# Altium footprint library 可控硅.PcbLib: 7 footprints
Each footprint in its own frame and in the unit in brackets; x right, y up, seen from the top. Pads: shape width x height; smd on the part's side, far side on the other; paste and mask are expansions set on the pad; w line width, h text height; cw(c..) or ccw(c..) is an arc to the next point about the centre after c.
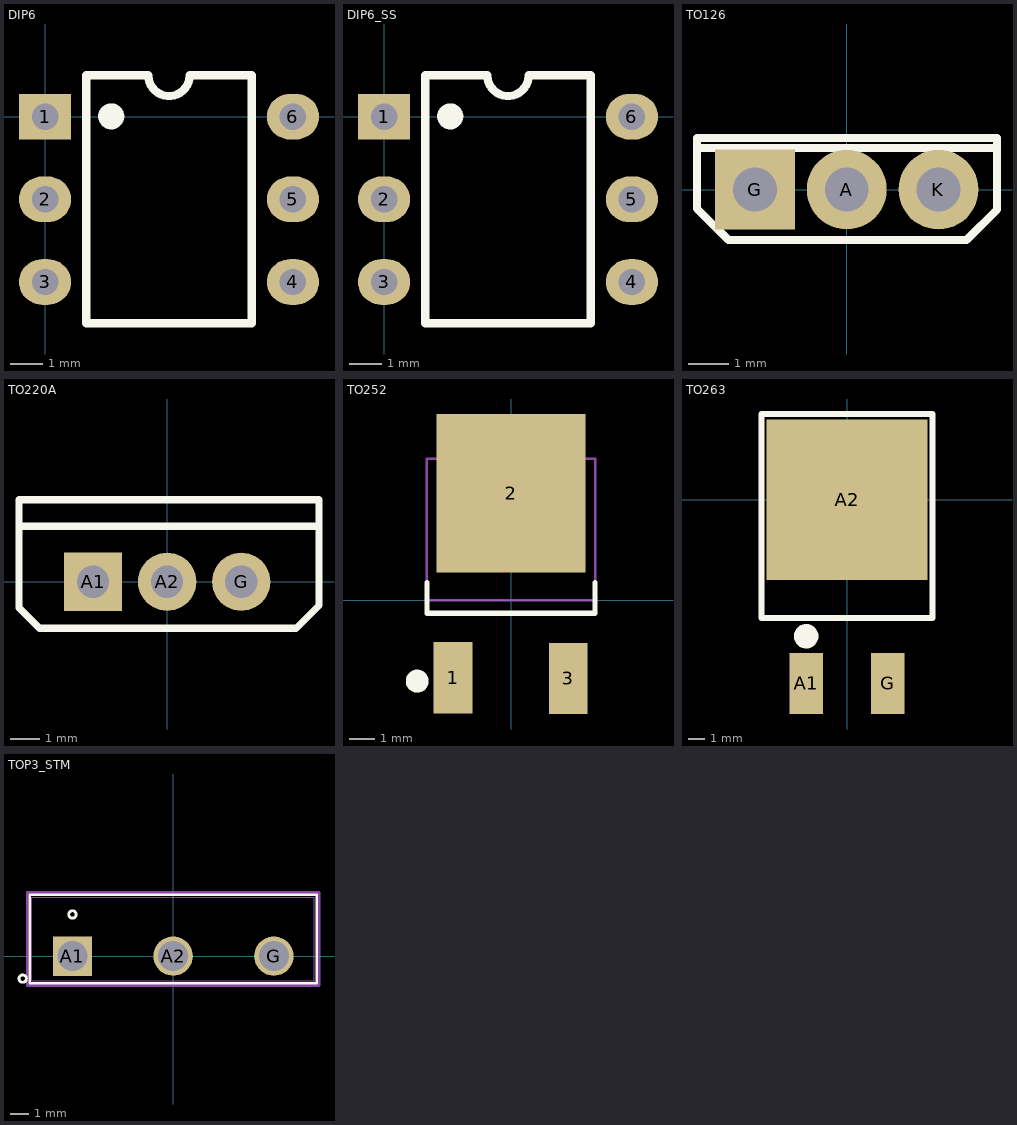
[diagram p0: the footprints below, top view; thin cyan lines are the x and y axes]

## DIP6 [mm]
pads (6):
  rect 1.6x1.4 hole 0.813: 1(0,0)
  oval 1.6x1.4 hole 0.813: 2(0,-2.54) 3(0,-5.08) 4(7.62,-5.08) 5(7.62,-2.54) 6(7.62,0)
Top Overlay:
  circle w0.5: c2.035,0.01 r0.15
  lines w0.254: 1.27,-6.35 6.35,-6.35 6.35,1.27 4.445,1.27 cw(c3.81,1.27) 3.175,1.27 1.27,1.27 1.27,-6.35
3D body "DIP6.STEP": height 4.3, standoff -3, extent -0.125,-6.104 7.745,1.016

## DIP6_SS [mm] "DIP6-SMD Socket"
pads (6):
  rect 1.6x1.4 hole 0.813: 1(0,0)
  oval 1.6x1.4 hole 0.813: 2(0,-2.54) 3(0,-5.08) 4(7.62,-5.08) 5(7.62,-2.54) 6(7.62,0)
Top Overlay:
  circle w0.5: c2.035,0.01 r0.15
  lines w0.254: 1.27,-6.35 6.35,-6.35 6.35,1.27 4.445,1.27 cw(c3.81,1.27) 3.175,1.27 1.27,1.27 1.27,-6.35
3D body "DIP6.STEP": height 7.3, standoff 0, extent -0.125,-6.231 7.745,0.889
3D body "DIP6.STEP": height 5, standoff -3, extent -1.27,-6.35 8.89,1.27

## TO126 [mm]
pads (3):
  round 2 hole 1.1: A(0,0) K(2.3,0)
  rect 2x2 hole 1.1: G(-2.3,0)
Top Overlay:
  lines w0.2: -3.734,1.041 3.734,1.041 ; -3.752,-0.48 -2.964,-1.268 3.005,-1.268 3.767,-0.506 3.767,1.295 -3.752,1.295 -3.752,-0.48
3D body "23.STEP": height 15, standoff -4, extent -4,-1.27 4,1.53

## TO220A [mm]
pads (3):
  rect 2x2 hole 1.1: A1(-2.54,0)
  round 2 hole 1.1: A2(0,0) G(2.54,0)
Top Overlay:
  lines w0.254: -4.928,1.905 5.131,1.905 ; -5.08,-0.889 -5.08,2.819 5.207,2.819 5.207,-0.813 4.42,-1.6 -4.369,-1.6 -5.08,-0.889
3D body "4.STEP": height 18.5, standoff -4, extent -5.08,-1.453 5.22,2.977

## TO252 [mil] "252晶体管"
pads (3):
  rect 60x110 smd: 1(-89.55,-119.77) 3(88.45,-120.77)
  rect 230x245 smd: 2(0,165.35)
Top Overlay:
  circle w19.68: c-145,-125 r7.87
  lines w7.87: -130,27.56 -130,-20 130,-20 130,27.56
Mechanical 15:
  lines w3.94: -105.04,218.5 -105.04,236.06 -65.59,271.65 65.59,271.65 105.04,236.06 105.04,218.5 ; -130,0 130,0 130,218.5 -130,218.5 -130,0
3D body "TO252.STEP": height 90.55, standoff -0.2, extent -127.95,-120 127.95,250.84

## TO263 [mm]
pads (3):
  rect 2.1x3.8 smd: A1(-2.54,-11.45) G(2.54,-11.45)
  rect 10x10 smd: A2(0,0)
Top Overlay:
  circle w0.762: c-2.54,-8.509 r0.381
  lines w0.381: -5.334,-7.366 5.334,-7.366 5.334,-5.588 5.334,5.334 -5.334,5.334 -5.334,-5.588 -5.334,-7.366
3D body "1.STEP": height 4.5, standoff 0, extent -4.92,-11.049 5.08,3.881

## TOP3_STM [mil]
pads (3):
  rect 85x85 hole 65: A1(-217.52,0)
  round 85 hole 65: A2(0,0) G(217.52,0)
Top Overlay:
  circle w6: c-325,-48.5 r8
  circle w6: c-217.52,90 r8
  lines w6: -310,-58.5 310,-58.5 310,132.5 -310,132.5 -310,-58.5
Mechanical 13:
  lines w1: -305,-53.5 305,-53.5 305,127.5 -305,127.5 -305,-53.5
Mechanical 15:
  lines w6: -315,-63.5 -315,137.5 315,137.5 315,-63.5 -315,-63.5
3D body "TOP3_STM.step": height 1027.83, standoff -123.15, extent -305,-58.5 305,122.52